# Altium footprint library Wire2Board.PcbLib: 2 footprints
Each footprint in its own frame and in the unit in brackets; x right, y up, seen from the top. Pads: shape width x height; smd on the part's side, far side on the other; paste and mask are expansions set on the pad; w line width, h text height; cw(c..) or ccw(c..) is an arc to the next point about the centre after c.
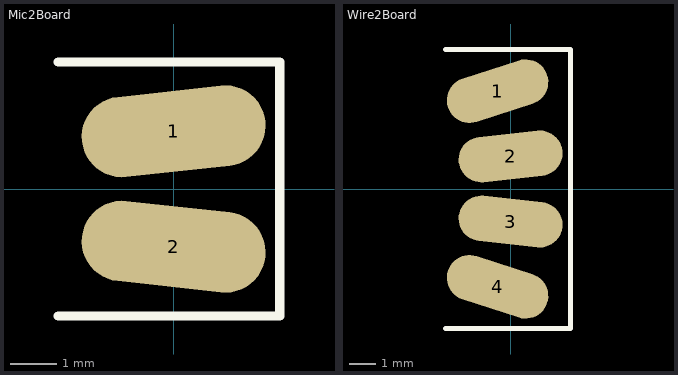
[diagram p0: the footprints below, top view; thin cyan lines are the x and y axes]

## Mic2Board [mm]
pads (2):
  oval 4x1.75 smd rot 6.25: 1(0,1.25)
  oval 4x1.75 smd rot 173.75: 2(0,-1.25)
Top Overlay:
  lines w0.2: -2.5,-2.75 2.3,-2.75 2.3,2.75 -2.5,2.75

## Wire2Board [mm]
pads (4):
  oval 4x1.75 smd rot 18: 1(-0.5,3.75)
  oval 4x1.75 smd rot 6.25: 2(0,1.25)
  oval 4x1.75 smd rot 173.75: 3(0,-1.25)
  oval 4x1.75 smd rot 162: 4(-0.5,-3.75)
Top Overlay:
  lines w0.2: -2.5,-5.35 2.3,-5.35 2.3,5.35 -2.5,5.35